# EAGLE library part EDGE-1 (library dec-con)
Single-Sided DEC Edge Connector -- (side 2)
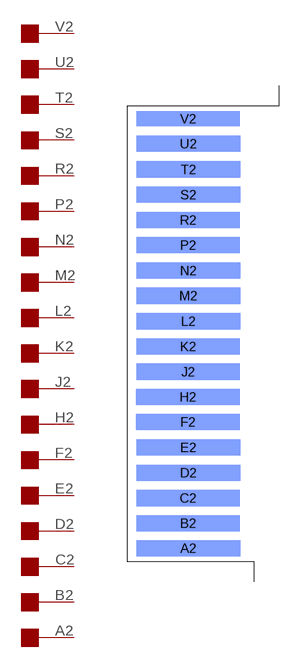
[diagram p0: symbol with the pads of EDGE-CON1; footprint EDGE-CON1]

Designator prefix -; gates V2=EDGE-RIGHT U2=EDGE-RIGHT T2=EDGE-RIGHT S2=EDGE-RIGHT R2=EDGE-RIGHT P2=EDGE-RIGHT N2=EDGE-RIGHT M2=EDGE-RIGHT L2=EDGE-RIGHT K2=EDGE-RIGHT J2=EDGE-RIGHT H2=EDGE-RIGHT F2=EDGE-RIGHT E2=EDGE-RIGHT D2=EDGE-RIGHT C2=EDGE-RIGHT B2=EDGE-RIGHT A2=EDGE-RIGHT

## EDGE-1  [EDGE-CON1]
A2  A2:1  pas
B2  B2:1  pas
C2  C2:1  pas
D2  D2:1  pas
E2  E2:1  pas
F2  F2:1  pas
H2  H2:1  pas
J2  J2:1  pas
K2  K2:1  pas
L2  L2:1  pas
M2  M2:1  pas
N2  N2:1  pas
P2  P2:1  pas
R2  R2:1  pas
S2  S2:1  pas
T2  T2:1  pas
U2  U2:1  pas
V2  V2:1  pas

## Footprint EDGE-CON1 (pad centres in mm)
Double-Sided DEC Edge Connector
smd 13.017 x 2.032 bottom: A2 7.69,4.194; B2 7.668,7.328; C2 7.668,10.49; D2 7.693,13.665; E2 7.693,16.84; F2 7.642,20.041; H2 7.642,23.19; J2 7.668,26.34; K2 7.668,29.515; L2 7.693,32.69; M2 7.693,35.89; N2 7.693,39.04; P2 7.668,42.24; R2 7.668,45.39; S2 7.693,48.565; T2 7.693,51.74; U2 7.693,54.966
smd 13.017 x 1.905 bottom: V2 7.668,58.102